# Altium schematic symbol library 6N137 DBL.Schlib: 1 symbol
Pins are listed as number, name and electrical type; pins without a type are passive.

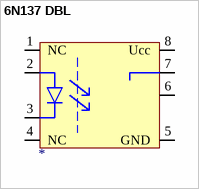
[diagram p0: symbol 6N137 DBL]

## 6N137 DBL
designator *  (value not drawn)
footprint DIP-8
pins: 1 NC, 2, 3, 4 NC, 5 GND, 6 OUT, 7 EN, 8 Ucc